# Altium schematic symbol library LM2765.SchLib: 1 symbol
Pins are listed as number, name and electrical type; pins without a type are passive.

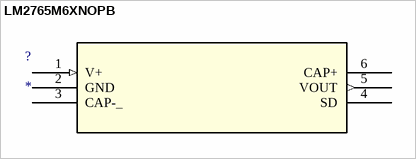
[diagram p0: symbol LM2765M6XNOPB]

## LM2765M6XNOPB
designator ?
Imported; Manufacturer_Part_Number: LM2765M6X/NOPB; CompType: SwitchCap; Vendor: National Semiconductor; base_pn: LM2765; Symbol: NameLM2765M6; Power - Output: 600mW; Frequency - Switching: 50kHz; Synchronous: No; Internal Switch(s): Yes; Number of Outputs: 1; Voltage - Input: 1.8 V ~ 5.5 V; Voltage - Output: 3.6 V ~ 11 V; Current - Output: 20mA; Output Type: Adjustable; 3D_Library_Name: National_SwitchCaps; C: Copyright (C) 2015 Accelerated Designs. All rights reserved; Type: DEV; Version: 05/02/2007; Rds (On): -; Operating Temperature: -40В°C ~ 85В°C; Packaging: Cut Tape (CT); DigiKeyPartNumber: LM2765M6CT-ND; Quantity_Available: 0; DataSheet: http://www.ti.com/lit/ds/symlink/lm2765.pdf; Output Power: 600mW; Package / Case: SOT-23-6; PWM Type: -; Synchronous Rectifier: No; Mounting Type: Surface Mount; Supplier Device Package: SOT-23-6; Copyright: Copyright (C) 2015 Accelerated Designs. All rights reserved; RefDes: RefDes; Value: Value
footprint MF06A
pins: 1 V+ (in), 2 GND, 3 CAP-_, 4 SD, 5 VOUT (out), 6 CAP+